# Altium schematic symbol library MOSFET-N-CHANNEL.Schlib: 1 symbol
Pins are listed as number, name and electrical type; pins without a type are passive.

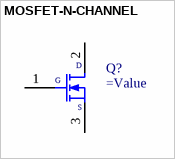
[diagram p0: symbol MOSFET-N-CHANNEL]

## MOSFET-N-CHANNEL
designator Q?
=Description
pins: 1 G, 2 D, 3 S